# EAGLE library part TPS63020 (library 4ms-main-parts)
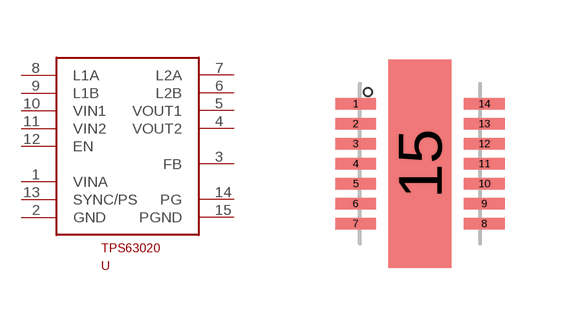
[diagram p26: symbol with the pads of PVSON-N14; footprint PVSON-N14]

Designator prefix -

## TPS63020  [PVSON-N14]
1  VINA  pas
2  GND  pwr
3  FB  in
4  VOUT2  out
5  VOUT1  out
6  L2B  pas
7  L2A  pas
8  L1A  pas
9  L1B  pas
10  VIN1  in
11  VIN2  in
12  EN  in
13  SYNC/PS  in
14  PG  oc
15  PGND  pwr

## Footprint PVSON-N14 (pad centres in mm)
smd 1.02 x 0.28: 1 -1.61,1.5; 2 -1.61,1; 3 -1.61,0.5; 4 -1.61,0; 5 -1.61,-0.5; 6 -1.61,-1; 7 -1.61,-1.5; 8 1.61,-1.5; 9 1.61,-1; 10 1.61,-0.5; 11 1.61,0; 12 1.61,0.5; 13 1.61,1; 14 1.61,1.5
smd 1.58 x 5.2: 15 0,0